# EAGLE library part USB (library Connectors)
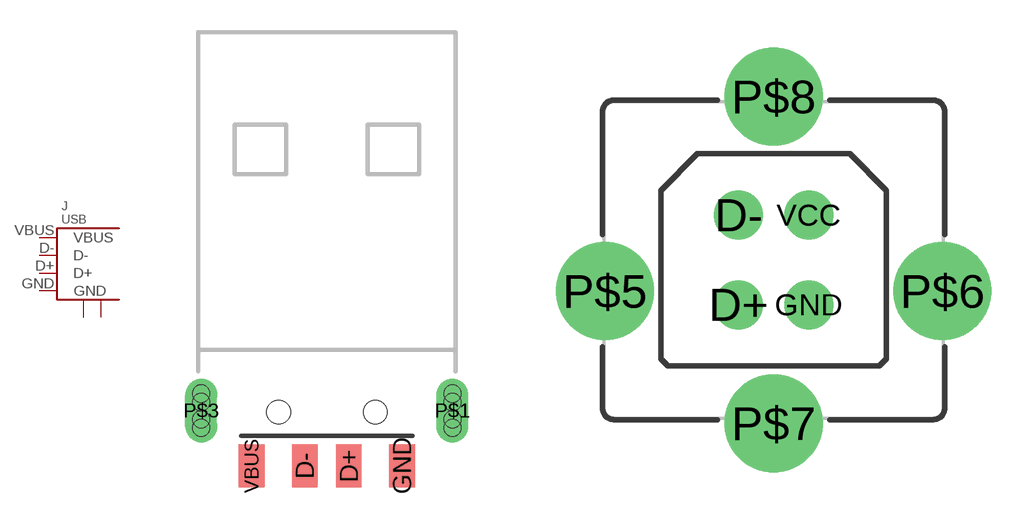
[diagram p9: symbol with the pads of USB-A-MALE-SMT; footprints USB-A-MALE-SMT, USB-B-VERTICAL]

Designator prefix J

## USB-A-MALE-SMT  [USB-A-MALE-SMT]
D+  D+
D-  D-
GND  GND
P$1  P$1
P$3  P$2
VBUS  VBUS

## USB-B-VERT  [USB-B-VERTICAL]
D+  D+
D-  D-
GND  GND
P$5  P$1
P$6  P$2
P$7  P$1
P$8  P$2
VCC  VBUS

## USB-A-MALE-SMT2  [1001-011-01101]
D+  D+
D-  D-
GND  GND
P$1  P$1
P$2  P$2
VBUS  VBUS

## USB-A-FEMALE  [USB-A-FEMALE]
1  VBUS
2  D-
3  D+
4  GND
P$1  P$1
P$2  P$2

## USB-B  [USB-B]
Pads as for 1001-011-01101

## USB-B-SLOT  [USB-B-SLOT]
Pads as for 1001-011-01101

## USB-A-FEMALE-SLOT  [USB-A-FEMALE-SLOT]
1  VBUS
2  D-
3  D+
4  GND
P$5  P$1
P$6  P$2

## Footprint USB-A-MALE-SMT (pad centres in mm)
smd 1.2 x 2: D+ 1.027,-5.4; D- -1.027,-5.4; GND 3.5,-5.4; VBUS -3.5,-5.4
drill 0.8 pad 1.5 long: P$1 5.85,-2.83; P$3 -5.85,-2.83
hole 1.1 at 2.25,-2.9
hole 1.1 at -2.25,-2.9
hole 0.8 at -5.85,-3.23
hole 0.8 at -5.85,-3.63
hole 0.8 at -5.85,-2.43
hole 0.8 at -5.85,-2.03
hole 0.8 at 5.85,-3.23
hole 0.8 at 5.85,-3.63
hole 0.8 at 5.85,-2.43
hole 0.8 at 5.85,-2.03

## Footprint USB-B-VERTICAL (pad centres in mm)
drill 1 pad 1.75: D+ -1.25,-1.6; D- -1.25,1.6; GND 1.25,-1.6; VCC 1.25,1.6
drill 2.3 pad 3.5: P$5 -6.02,-1.11; P$6 6.02,-1.11; P$7 0,-5.83; P$8 0,5.83

## Footprint 1001-011-01101 (pad centres in mm)
smd 1.1 x 2.5: D+ 1,-5.75; D- -1,-5.75; GND 3.5,-5.75; VBUS -3.5,-5.75
drill 2.5: P$1 5.7,-3; P$2 -5.7,-3
hole 1.1 at -2.3,-3
hole 1.1 at 2.3,-3

## Footprint USB-A-FEMALE (pad centres in mm)
drill 1: 1 -3.5,2.71; 2 -1,2.71; 3 1,2.71; 4 3.5,2.71
drill 2.3: P$1 6.57,0; P$2 -6.57,0

## Footprint USB-B (pad centres in mm)
drill 1: D+ 2.71,1.25; D- 4.71,1.25; GND 2.71,-1.25; VBUS 4.71,-1.25
drill 2.3 pad 3.55: P$1 0,6.02; P$2 0,-6.02

## Footprint USB-B-SLOT (pad centres in mm)
drill 1: D+ 2.71,1.25; D- 4.71,1.25; GND 2.71,-1.25; VBUS 4.71,-1.25
drill 0.8 pad 1.3: P$1 0,-6.02; P$2 0,6.02

## Footprint USB-A-FEMALE-SLOT (pad centres in mm)
drill 1: 1 9,3.5; 2 9,1; 3 9,-1; 4 9,-3.5
drill 0.8: P$5 6.29,-6.57; P$6 6.29,6.57
hole 0.8 at 5.52,-6.57
hole 0.8 at 7.06,-6.57
hole 0.8 at 5.52,6.57
hole 0.8 at 7.06,6.57